# Altium integrated library TI Power Management Linear Regulator Single Channel LDO (0-350mA).IntLib: 1648 symbols (part 5 of 66)
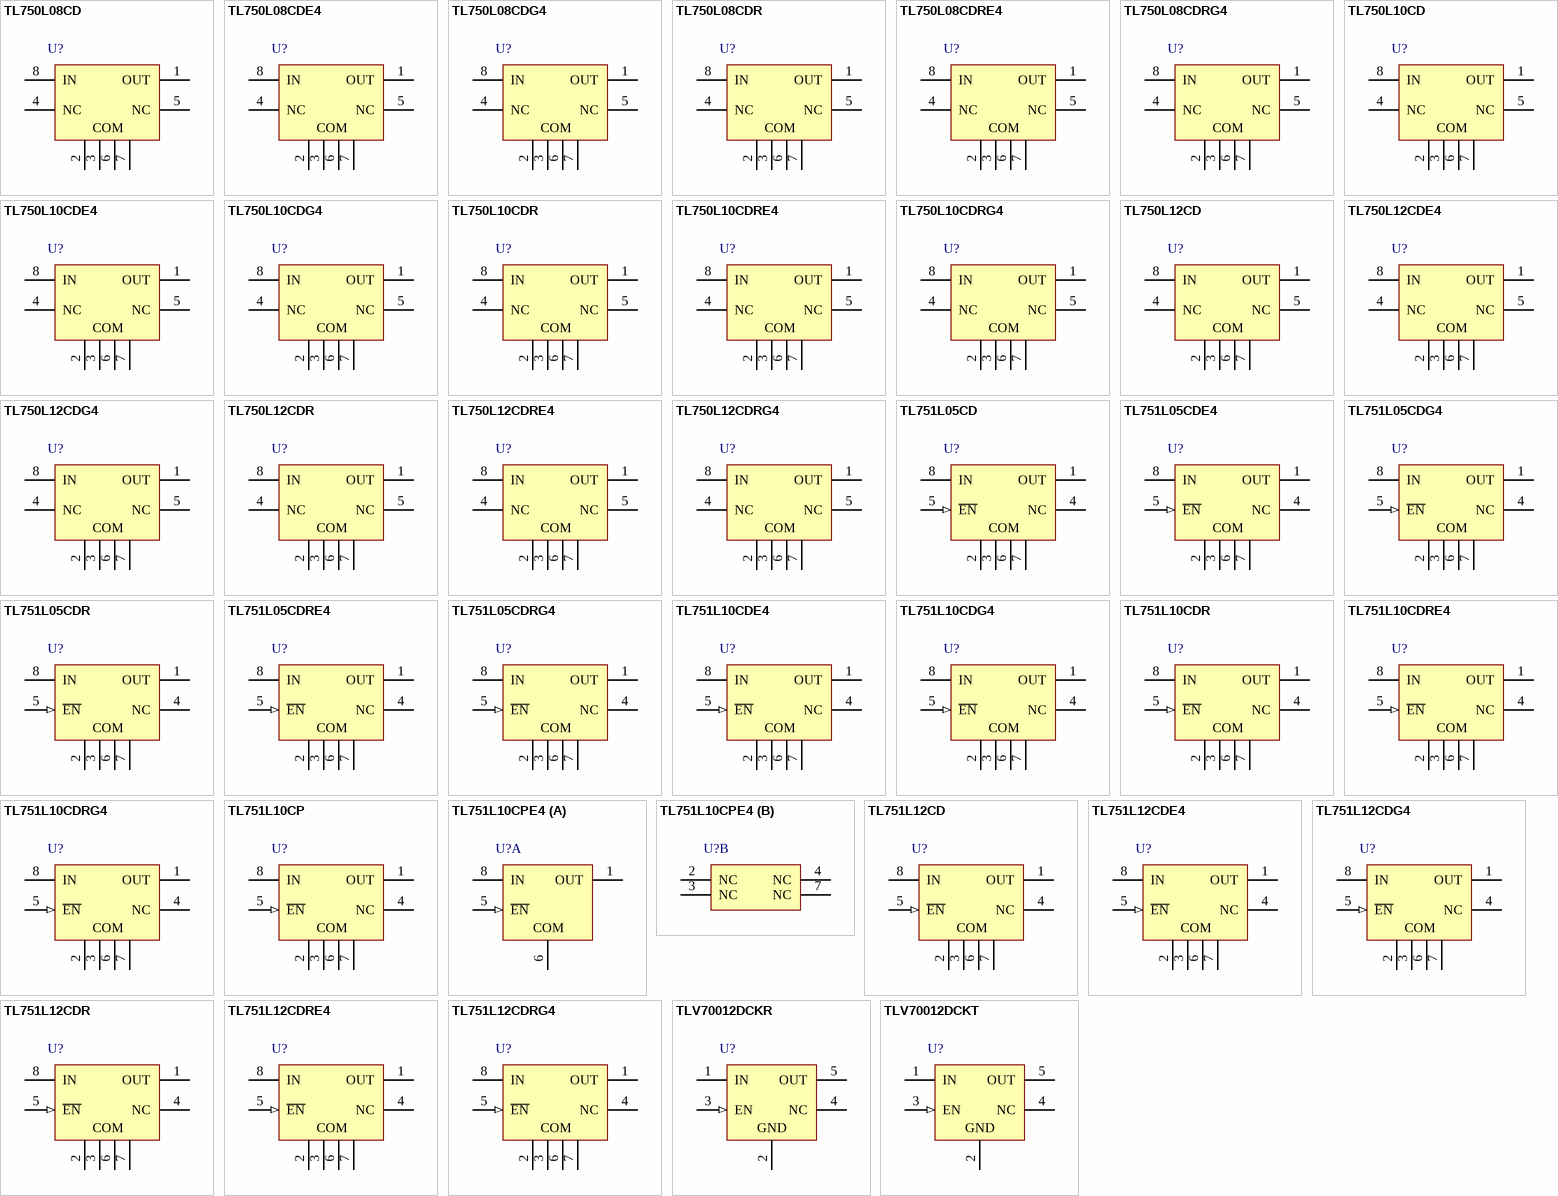
[diagram p46: symbols TL750L08CD to TLV70012DCKT]

## TL750L08CD
designator U?
Single Output LDO, 150 mA, Fixed 8 V Output, 9 to 26 V Input, with Low IQ, 8-pin SOIC (D), 0 to 125 degC, Green (RoHS & no Sb/Br); Manufacturer: Texas Instruments; PartNumber: TL750L08CD; Accuracy(%): 4; Fixed Output Options(V): 8; Iout(Max)(A): 0.15; Iq(Typ)(mA): 1; Rating: Catalog; SubFamily: Single Channel LDO; Vdo(Typ)(mV): 600; Vin(Max)(V): 26; Vin(Min)(V): 9; DatasheetVersion: SLVS017U; PackageVersion: 4040047-3/M; PackageReference: D8; PackageDescription: 8-Pin Plastic Small Outline, Body 4.9 x 3.9 mm, Pitch 1.27 mm; Supplier 1: Digi-Key; Supplier Part Number 1: 296-8004-5-ND; Supplier 2: Newark; Supplier Part Number 2: 76C9329; Supplier 3: Mouser; Supplier Part Number 3: 595-TL750L08CD; Eco-Plan: Green (RoHS & no Sb/Br); Vout Adj(Max)(V): 8; Vout Adj(Min)(V): 8; Mounting Technology: Surface Mount; Code_JEDEC: MS-012; ComponentLink1Description: Manufacturer URL; ComponentLink1URL: http://www.ti.com/; ComponentLink2Description: Datasheet; ComponentLink2URL: http://www.ti.com/general/docs/lit/getliterature.tsp?genericPartNumber=TL750L08&fileType=pdf; ComponentLink3Description: Package Specification; ComponentLink3URL: http://www.ti.com/litv/pdf/msoi002j; ComponentLink4Description: URL Link1; ComponentLink4URL: Samples URL:http://www.ti.com/product/tl750l08#samples
footprint TI-D8_N (SOIC, 8-Leads, Body 4.9x3.9mm, Pitch 1.27mm, IPC Medium Density)
footprint TI-D8_L (SOIC, 8-Leads, Body 4.9x3.9mm, Pitch 1.27mm, IPC High Density)
footprint TI-D8_M (SOIC, 8-Leads, Body 4.9x3.9mm, Pitch 1.27mm, IPC Low Density)
pins: 1 OUT (power), 2 COM (power), 3 COM (power), 4 NC "No internal connection", 5 NC "No internal connection", 6 COM (power), 7 COM (power), 8 IN (power)

## TL750L08CDE4
designator U?
Single Output LDO, 150 mA, Fixed 8 V Output, 9 to 26 V Input, with Low IQ, 8-pin SOIC (D), 0 to 125 degC, Green (RoHS & no Sb/Br); Manufacturer: Texas Instruments; PartNumber: TL750L08CDE4; Accuracy(%): 4; Fixed Output Options(V): 8; Iout(Max)(A): 0.15; Iq(Typ)(mA): 1; Rating: Catalog; SubFamily: Single Channel LDO; Vdo(Typ)(mV): 600; Vin(Max)(V): 26; Vin(Min)(V): 9; DatasheetVersion: SLVS017U; PackageVersion: 4040047-3/M; PackageReference: D8; PackageDescription: 8-Pin Plastic Small Outline, Body 4.9 x 3.9 mm, Pitch 1.27 mm; Supplier 1: Digi-Key; Supplier Part Number 1: TL750L08CDE4-ND; Supplier 2: Newark; Supplier Part Number 2: 37K4565; Supplier 3: Mouser; Supplier Part Number 3: 595-TL750L08CDE4; Eco-Plan: Green (RoHS & no Sb/Br); Vout Adj(Max)(V): 8; Vout Adj(Min)(V): 8; Mounting Technology: Surface Mount; Code_JEDEC: MS-012; ComponentLink1Description: Manufacturer URL; ComponentLink1URL: http://www.ti.com/; ComponentLink2Description: Datasheet; ComponentLink2URL: http://www.ti.com/general/docs/lit/getliterature.tsp?genericPartNumber=TL750L08&fileType=pdf; ComponentLink3Description: Package Specification; ComponentLink3URL: http://www.ti.com/litv/pdf/msoi002j; ComponentLink4Description: URL Link1; ComponentLink4URL: Samples URL:http://www.ti.com/product/tl750l08#samples
footprint TI-D8_N (SOIC, 8-Leads, Body 4.9x3.9mm, Pitch 1.27mm, IPC Medium Density)
footprint TI-D8_L (SOIC, 8-Leads, Body 4.9x3.9mm, Pitch 1.27mm, IPC High Density)
footprint TI-D8_M (SOIC, 8-Leads, Body 4.9x3.9mm, Pitch 1.27mm, IPC Low Density)
pins: 1 OUT (power), 2 COM (power), 3 COM (power), 4 NC "No internal connection", 5 NC "No internal connection", 6 COM (power), 7 COM (power), 8 IN (power)

## TL750L08CDG4
designator U?
Single Output LDO, 150 mA, Fixed 8 V Output, 9 to 26 V Input, with Low IQ, 8-pin SOIC (D), 0 to 125 degC, Green (RoHS & no Sb/Br); Manufacturer: Texas Instruments; PartNumber: TL750L08CDG4; Accuracy(%): 4; Fixed Output Options(V): 8; Iout(Max)(A): 0.15; Iq(Typ)(mA): 1; Rating: Catalog; SubFamily: Single Channel LDO; Vdo(Typ)(mV): 600; Vin(Max)(V): 26; Vin(Min)(V): 9; DatasheetVersion: SLVS017U; PackageVersion: 4040047-3/M; PackageReference: D8; PackageDescription: 8-Pin Plastic Small Outline, Body 4.9 x 3.9 mm, Pitch 1.27 mm; Supplier 1: Digi-Key; Supplier Part Number 1: TL750L08CDG4-ND; Supplier 2: Newark; Supplier Part Number 2: 41M5782; Supplier 3: Mouser; Supplier Part Number 3: 595-TL750L08CDG4; Eco-Plan: Green (RoHS & no Sb/Br); Vout Adj(Max)(V): 8; Vout Adj(Min)(V): 8; Mounting Technology: Surface Mount; Code_JEDEC: MS-012; ComponentLink1Description: Manufacturer URL; ComponentLink1URL: http://www.ti.com/; ComponentLink2Description: Datasheet; ComponentLink2URL: http://www.ti.com/general/docs/lit/getliterature.tsp?genericPartNumber=TL750L08&fileType=pdf; ComponentLink3Description: Package Specification; ComponentLink3URL: http://www.ti.com/litv/pdf/msoi002j; ComponentLink4Description: URL Link1; ComponentLink4URL: Samples URL:http://www.ti.com/product/tl750l08#samples
footprint TI-D8_N (SOIC, 8-Leads, Body 4.9x3.9mm, Pitch 1.27mm, IPC Medium Density)
footprint TI-D8_L (SOIC, 8-Leads, Body 4.9x3.9mm, Pitch 1.27mm, IPC High Density)
footprint TI-D8_M (SOIC, 8-Leads, Body 4.9x3.9mm, Pitch 1.27mm, IPC Low Density)
pins: 1 OUT (power), 2 COM (power), 3 COM (power), 4 NC "No internal connection", 5 NC "No internal connection", 6 COM (power), 7 COM (power), 8 IN (power)

## TL750L08CDR
designator U?
Single Output LDO, 150 mA, Fixed 8 V Output, 9 to 26 V Input, with Low IQ, 8-pin SOIC (D), 0 to 125 degC, Green (RoHS & no Sb/Br); Manufacturer: Texas Instruments; PartNumber: TL750L08CDR; Accuracy(%): 4; Fixed Output Options(V): 8; Iout(Max)(A): 0.15; Iq(Typ)(mA): 1; Rating: Catalog; SubFamily: Single Channel LDO; Vdo(Typ)(mV): 600; Vin(Max)(V): 26; Vin(Min)(V): 9; DatasheetVersion: SLVS017U; PackageVersion: 4040047-3/M; PackageReference: D8; PackageDescription: 8-Pin Plastic Small Outline, Body 4.9 x 3.9 mm, Pitch 1.27 mm; Supplier 1: Digi-Key; Supplier Part Number 1: TL750L08CDR-ND; Supplier 2: Newark; Supplier Part Number 2: 76C9330; Supplier 3: Mouser; Supplier Part Number 3: 595-TL750L08CDR; Eco-Plan: Green (RoHS & no Sb/Br); Vout Adj(Max)(V): 8; Vout Adj(Min)(V): 8; Mounting Technology: Surface Mount; Code_JEDEC: MS-012; ComponentLink1Description: Manufacturer URL; ComponentLink1URL: http://www.ti.com/; ComponentLink2Description: Datasheet; ComponentLink2URL: http://www.ti.com/general/docs/lit/getliterature.tsp?genericPartNumber=TL750L08&fileType=pdf; ComponentLink3Description: Package Specification; ComponentLink3URL: http://www.ti.com/litv/pdf/msoi002j; ComponentLink4Description: URL Link1; ComponentLink4URL: Samples URL:http://www.ti.com/product/tl750l08#samples
footprint TI-D8_N (SOIC, 8-Leads, Body 4.9x3.9mm, Pitch 1.27mm, IPC Medium Density)
footprint TI-D8_L (SOIC, 8-Leads, Body 4.9x3.9mm, Pitch 1.27mm, IPC High Density)
footprint TI-D8_M (SOIC, 8-Leads, Body 4.9x3.9mm, Pitch 1.27mm, IPC Low Density)
pins: 1 OUT (power), 2 COM (power), 3 COM (power), 4 NC "No internal connection", 5 NC "No internal connection", 6 COM (power), 7 COM (power), 8 IN (power)

## TL750L08CDRE4
designator U?
Single Output LDO, 150 mA, Fixed 8 V Output, 9 to 26 V Input, with Low IQ, 8-pin SOIC (D), 0 to 125 degC, Green (RoHS & no Sb/Br); Manufacturer: Texas Instruments; PartNumber: TL750L08CDRE4; Accuracy(%): 4; Fixed Output Options(V): 8; Iout(Max)(A): 0.15; Iq(Typ)(mA): 1; Rating: Catalog; SubFamily: Single Channel LDO; Vdo(Typ)(mV): 600; Vin(Max)(V): 26; Vin(Min)(V): 9; DatasheetVersion: SLVS017U; PackageVersion: 4040047-3/M; PackageReference: D8; PackageDescription: 8-Pin Plastic Small Outline, Body 4.9 x 3.9 mm, Pitch 1.27 mm; Supplier 1: Digi-Key; Supplier Part Number 1: TL750L08CDRE4-ND; Supplier 2: Newark; Supplier Part Number 2: 37K4566; Supplier 3: Mouser; Supplier Part Number 3: 595-TL750L08CDRE4; Eco-Plan: Green (RoHS & no Sb/Br); Vout Adj(Max)(V): 8; Vout Adj(Min)(V): 8; Mounting Technology: Surface Mount; Code_JEDEC: MS-012; ComponentLink1Description: Manufacturer URL; ComponentLink1URL: http://www.ti.com/; ComponentLink2Description: Datasheet; ComponentLink2URL: http://www.ti.com/general/docs/lit/getliterature.tsp?genericPartNumber=TL750L08&fileType=pdf; ComponentLink3Description: Package Specification; ComponentLink3URL: http://www.ti.com/litv/pdf/msoi002j; ComponentLink4Description: URL Link1; ComponentLink4URL: Samples URL:http://www.ti.com/product/tl750l08#samples
footprint TI-D8_N (SOIC, 8-Leads, Body 4.9x3.9mm, Pitch 1.27mm, IPC Medium Density)
footprint TI-D8_L (SOIC, 8-Leads, Body 4.9x3.9mm, Pitch 1.27mm, IPC High Density)
footprint TI-D8_M (SOIC, 8-Leads, Body 4.9x3.9mm, Pitch 1.27mm, IPC Low Density)
pins: 1 OUT (power), 2 COM (power), 3 COM (power), 4 NC "No internal connection", 5 NC "No internal connection", 6 COM (power), 7 COM (power), 8 IN (power)

## TL750L08CDRG4
designator U?
Single Output LDO, 150 mA, Fixed 8 V Output, 9 to 26 V Input, with Low IQ, 8-pin SOIC (D), 0 to 125 degC, Green (RoHS & no Sb/Br); Manufacturer: Texas Instruments; PartNumber: TL750L08CDRG4; Accuracy(%): 4; Fixed Output Options(V): 8; Iout(Max)(A): 0.15; Iq(Typ)(mA): 1; Rating: Catalog; SubFamily: Single Channel LDO; Vdo(Typ)(mV): 600; Vin(Max)(V): 26; Vin(Min)(V): 9; DatasheetVersion: SLVS017U; PackageVersion: 4040047-3/M; PackageReference: D8; PackageDescription: 8-Pin Plastic Small Outline, Body 4.9 x 3.9 mm, Pitch 1.27 mm; Supplier 1: Digi-Key; Supplier Part Number 1: TL750L08CDRG4-ND; Supplier 2: Newark; Supplier Part Number 2: 41M5783; Supplier 3: Mouser; Supplier Part Number 3: 595-TL750L08CDRG4; Eco-Plan: Green (RoHS & no Sb/Br); Vout Adj(Max)(V): 8; Vout Adj(Min)(V): 8; Mounting Technology: Surface Mount; Code_JEDEC: MS-012; ComponentLink1Description: Manufacturer URL; ComponentLink1URL: http://www.ti.com/; ComponentLink2Description: Datasheet; ComponentLink2URL: http://www.ti.com/general/docs/lit/getliterature.tsp?genericPartNumber=TL750L08&fileType=pdf; ComponentLink3Description: Package Specification; ComponentLink3URL: http://www.ti.com/litv/pdf/msoi002j; ComponentLink4Description: URL Link1; ComponentLink4URL: Samples URL:http://www.ti.com/product/tl750l08#samples
footprint TI-D8_N (SOIC, 8-Leads, Body 4.9x3.9mm, Pitch 1.27mm, IPC Medium Density)
footprint TI-D8_L (SOIC, 8-Leads, Body 4.9x3.9mm, Pitch 1.27mm, IPC High Density)
footprint TI-D8_M (SOIC, 8-Leads, Body 4.9x3.9mm, Pitch 1.27mm, IPC Low Density)
pins: 1 OUT (power), 2 COM (power), 3 COM (power), 4 NC "No internal connection", 5 NC "No internal connection", 6 COM (power), 7 COM (power), 8 IN (power)

## TL750L10CD
designator U?
Single Output LDO, 150 mA, Fixed 10 V Output, 11 to 26 V Input, with Low IQ, 8-pin SOIC (D), 0 to 125 degC, Green (RoHS & no Sb/Br); Manufacturer: Texas Instruments; PartNumber: TL750L10CD; Accuracy(%): 4; Fixed Output Options(V): 10; Iout(Max)(A): 0.15; Iq(Typ)(mA): 1; Rating: Catalog; SubFamily: Single Channel LDO; Vdo(Typ)(mV): 600; Vin(Max)(V): 26; Vin(Min)(V): 11; DatasheetVersion: SLVS017U; PackageVersion: 4040047-3/M; PackageReference: D8; PackageDescription: 8-Pin Plastic Small Outline, Body 4.9 x 3.9 mm, Pitch 1.27 mm; Supplier 1: Digi-Key; Supplier Part Number 1: 296-8006-5-ND; Supplier 2: Newark; Supplier Part Number 2: 76C9331; Supplier 3: Mouser; Supplier Part Number 3: 595-TL750L10CD; Eco-Plan: Green (RoHS & no Sb/Br); Vout Adj(Max)(V): 10; Vout Adj(Min)(V): 10; Mounting Technology: Surface Mount; Code_JEDEC: MS-012; ComponentLink1Description: Manufacturer URL; ComponentLink1URL: http://www.ti.com/; ComponentLink2Description: Datasheet; ComponentLink2URL: http://www.ti.com/general/docs/lit/getliterature.tsp?genericPartNumber=TL750L10&fileType=pdf; ComponentLink3Description: Package Specification; ComponentLink3URL: http://www.ti.com/litv/pdf/msoi002j; ComponentLink4Description: URL Link1; ComponentLink4URL: Samples URL:http://www.ti.com/product/tl750l10#samples
footprint TI-D8_N (SOIC, 8-Leads, Body 4.9x3.9mm, Pitch 1.27mm, IPC Medium Density)
footprint TI-D8_L (SOIC, 8-Leads, Body 4.9x3.9mm, Pitch 1.27mm, IPC High Density)
footprint TI-D8_M (SOIC, 8-Leads, Body 4.9x3.9mm, Pitch 1.27mm, IPC Low Density)
pins: 1 OUT (power), 2 COM (power), 3 COM (power), 4 NC, 5 NC, 6 COM (power), 7 COM (power), 8 IN (power)

## TL750L10CDE4
designator U?
Single Output LDO, 150 mA, Fixed 10 V Output, 11 to 26 V Input, with Low IQ, 8-pin SOIC (D), 0 to 125 degC, Green (RoHS & no Sb/Br); Manufacturer: Texas Instruments; PartNumber: TL750L10CDE4; Accuracy(%): 4; Fixed Output Options(V): 10; Iout(Max)(A): 0.15; Iq(Typ)(mA): 1; Rating: Catalog; SubFamily: Single Channel LDO; Vdo(Typ)(mV): 600; Vin(Max)(V): 26; Vin(Min)(V): 11; DatasheetVersion: SLVS017U; PackageVersion: 4040047-3/M; PackageReference: D8; PackageDescription: 8-Pin Plastic Small Outline, Body 4.9 x 3.9 mm, Pitch 1.27 mm; Supplier 1: Digi-Key; Supplier Part Number 1: TL750L10CDE4-ND; Supplier 2: Mouser; Supplier Part Number 2: 595-TL750L10CDE4; Eco-Plan: Green (RoHS & no Sb/Br); Vout Adj(Max)(V): 10; Vout Adj(Min)(V): 10; Mounting Technology: Surface Mount; Code_JEDEC: MS-012; ComponentLink1Description: Manufacturer URL; ComponentLink1URL: http://www.ti.com/; ComponentLink2Description: Datasheet; ComponentLink2URL: http://www.ti.com/general/docs/lit/getliterature.tsp?genericPartNumber=TL750L10&fileType=pdf; ComponentLink3Description: Package Specification; ComponentLink3URL: http://www.ti.com/litv/pdf/msoi002j; ComponentLink4Description: URL Link1; ComponentLink4URL: Samples URL:http://www.ti.com/product/tl750l10#samples
footprint TI-D8_N (SOIC, 8-Leads, Body 4.9x3.9mm, Pitch 1.27mm, IPC Medium Density)
footprint TI-D8_L (SOIC, 8-Leads, Body 4.9x3.9mm, Pitch 1.27mm, IPC High Density)
footprint TI-D8_M (SOIC, 8-Leads, Body 4.9x3.9mm, Pitch 1.27mm, IPC Low Density)
pins: 1 OUT (power), 2 COM (power), 3 COM (power), 4 NC, 5 NC, 6 COM (power), 7 COM (power), 8 IN (power)

## TL750L10CDG4
designator U?
Single Output LDO, 150 mA, Fixed 10 V Output, 11 to 26 V Input, with Low IQ, 8-pin SOIC (D), 0 to 125 degC, Green (RoHS & no Sb/Br); Manufacturer: Texas Instruments; PartNumber: TL750L10CDG4; Accuracy(%): 4; Fixed Output Options(V): 10; Iout(Max)(A): 0.15; Iq(Typ)(mA): 1; Rating: Catalog; SubFamily: Single Channel LDO; Vdo(Typ)(mV): 600; Vin(Max)(V): 26; Vin(Min)(V): 11; DatasheetVersion: SLVS017U; PackageVersion: 4040047-3/M; PackageReference: D8; PackageDescription: 8-Pin Plastic Small Outline, Body 4.9 x 3.9 mm, Pitch 1.27 mm; Supplier 1: Digi-Key; Supplier Part Number 1: TL750L10CDG4-ND; Supplier 2: Newark; Supplier Part Number 2: 41M5784; Supplier 3: Mouser; Supplier Part Number 3: 595-TL750L10CDG4; Eco-Plan: Green (RoHS & no Sb/Br); Vout Adj(Max)(V): 10; Vout Adj(Min)(V): 10; Mounting Technology: Surface Mount; Code_JEDEC: MS-012; ComponentLink1Description: Manufacturer URL; ComponentLink1URL: http://www.ti.com/; ComponentLink2Description: Datasheet; ComponentLink2URL: http://www.ti.com/general/docs/lit/getliterature.tsp?genericPartNumber=TL750L10&fileType=pdf; ComponentLink3Description: Package Specification; ComponentLink3URL: http://www.ti.com/litv/pdf/msoi002j; ComponentLink4Description: URL Link1; ComponentLink4URL: Samples URL:http://www.ti.com/product/tl750l10#samples
footprint TI-D8_N (SOIC, 8-Leads, Body 4.9x3.9mm, Pitch 1.27mm, IPC Medium Density)
footprint TI-D8_L (SOIC, 8-Leads, Body 4.9x3.9mm, Pitch 1.27mm, IPC High Density)
footprint TI-D8_M (SOIC, 8-Leads, Body 4.9x3.9mm, Pitch 1.27mm, IPC Low Density)
pins: 1 OUT (power), 2 COM (power), 3 COM (power), 4 NC, 5 NC, 6 COM (power), 7 COM (power), 8 IN (power)

## TL750L10CDR
designator U?
Single Output LDO, 150 mA, Fixed 10 V Output, 11 to 26 V Input, with Low IQ, 8-pin SOIC (D), 0 to 125 degC, Green (RoHS & no Sb/Br); Manufacturer: Texas Instruments; PartNumber: TL750L10CDR; Accuracy(%): 4; Fixed Output Options(V): 10; Iout(Max)(A): 0.15; Iq(Typ)(mA): 1; Rating: Catalog; SubFamily: Single Channel LDO; Vdo(Typ)(mV): 600; Vin(Max)(V): 26; Vin(Min)(V): 11; DatasheetVersion: SLVS017U; PackageVersion: 4040047-3/M; PackageReference: D8; PackageDescription: 8-Pin Plastic Small Outline, Body 4.9 x 3.9 mm, Pitch 1.27 mm; Supplier 1: Digi-Key; Supplier Part Number 1: 296-31949-2-ND; Supplier 2: Digi-Key; Supplier Part Number 2: 296-31949-1-ND; Supplier 3: Digi-Key; Supplier Part Number 3: 296-31949-6-ND; Supplier 4: Newark; Supplier Part Number 4: 76C9332; Supplier 5: Mouser; Supplier Part Number 5: 595-TL750L10CDR; Eco-Plan: Green (RoHS & no Sb/Br); Vout Adj(Max)(V): 10; Vout Adj(Min)(V): 10; Mounting Technology: Surface Mount; Code_JEDEC: MS-012; ComponentLink1Description: Manufacturer URL; ComponentLink1URL: http://www.ti.com/; ComponentLink2Description: Datasheet; ComponentLink2URL: http://www.ti.com/general/docs/lit/getliterature.tsp?genericPartNumber=TL750L10&fileType=pdf; ComponentLink3Description: Package Specification; ComponentLink3URL: http://www.ti.com/litv/pdf/msoi002j; ComponentLink4Description: URL Link1; ComponentLink4URL: Samples URL:http://www.ti.com/product/tl750l10#samples
footprint TI-D8_N (SOIC, 8-Leads, Body 4.9x3.9mm, Pitch 1.27mm, IPC Medium Density)
footprint TI-D8_L (SOIC, 8-Leads, Body 4.9x3.9mm, Pitch 1.27mm, IPC High Density)
footprint TI-D8_M (SOIC, 8-Leads, Body 4.9x3.9mm, Pitch 1.27mm, IPC Low Density)
pins: 1 OUT (power), 2 COM (power), 3 COM (power), 4 NC, 5 NC, 6 COM (power), 7 COM (power), 8 IN (power)

## TL750L10CDRE4
designator U?
Single Output LDO, 150 mA, Fixed 10 V Output, 11 to 26 V Input, with Low IQ, 8-pin SOIC (D), 0 to 125 degC, Green (RoHS & no Sb/Br); Manufacturer: Texas Instruments; PartNumber: TL750L10CDRE4; Accuracy(%): 4; Fixed Output Options(V): 10; Iout(Max)(A): 0.15; Iq(Typ)(mA): 1; Rating: Catalog; SubFamily: Single Channel LDO; Vdo(Typ)(mV): 600; Vin(Max)(V): 26; Vin(Min)(V): 11; DatasheetVersion: SLVS017U; PackageVersion: 4040047-3/M; PackageReference: D8; PackageDescription: 8-Pin Plastic Small Outline, Body 4.9 x 3.9 mm, Pitch 1.27 mm; Supplier 1: Digi-Key; Supplier Part Number 1: TL750L10CDRE4-ND; Supplier 2: Mouser; Supplier Part Number 2: 595-TL750L10CDRE4; Eco-Plan: Green (RoHS & no Sb/Br); Vout Adj(Max)(V): 10; Vout Adj(Min)(V): 10; Mounting Technology: Surface Mount; Code_JEDEC: MS-012; ComponentLink1Description: Manufacturer URL; ComponentLink1URL: http://www.ti.com/; ComponentLink2Description: Datasheet; ComponentLink2URL: http://www.ti.com/general/docs/lit/getliterature.tsp?genericPartNumber=TL750L10&fileType=pdf; ComponentLink3Description: Package Specification; ComponentLink3URL: http://www.ti.com/litv/pdf/msoi002j; ComponentLink4Description: URL Link1; ComponentLink4URL: Samples URL:http://www.ti.com/product/tl750l10#samples
footprint TI-D8_N (SOIC, 8-Leads, Body 4.9x3.9mm, Pitch 1.27mm, IPC Medium Density)
footprint TI-D8_L (SOIC, 8-Leads, Body 4.9x3.9mm, Pitch 1.27mm, IPC High Density)
footprint TI-D8_M (SOIC, 8-Leads, Body 4.9x3.9mm, Pitch 1.27mm, IPC Low Density)
pins: 1 OUT (power), 2 COM (power), 3 COM (power), 4 NC, 5 NC, 6 COM (power), 7 COM (power), 8 IN (power)

## TL750L10CDRG4
designator U?
Single Output LDO, 150 mA, Fixed 10 V Output, 11 to 26 V Input, with Low IQ, 8-pin SOIC (D), 0 to 125 degC, Green (RoHS & no Sb/Br); Manufacturer: Texas Instruments; PartNumber: TL750L10CDRG4; Accuracy(%): 4; Fixed Output Options(V): 10; Iout(Max)(A): 0.15; Iq(Typ)(mA): 1; Rating: Catalog; SubFamily: Single Channel LDO; Vdo(Typ)(mV): 600; Vin(Max)(V): 26; Vin(Min)(V): 11; DatasheetVersion: SLVS017U; PackageVersion: 4040047-3/M; PackageReference: D8; PackageDescription: 8-Pin Plastic Small Outline, Body 4.9 x 3.9 mm, Pitch 1.27 mm; Supplier 1: Digi-Key; Supplier Part Number 1: TL750L10CDRG4-ND; Supplier 2: Newark; Supplier Part Number 2: 41M5785; Supplier 3: Mouser; Supplier Part Number 3: 595-TL750L10CDRG4; Eco-Plan: Green (RoHS & no Sb/Br); Vout Adj(Max)(V): 10; Vout Adj(Min)(V): 10; Mounting Technology: Surface Mount; Code_JEDEC: MS-012; ComponentLink1Description: Manufacturer URL; ComponentLink1URL: http://www.ti.com/; ComponentLink2Description: Datasheet; ComponentLink2URL: http://www.ti.com/general/docs/lit/getliterature.tsp?genericPartNumber=TL750L10&fileType=pdf; ComponentLink3Description: Package Specification; ComponentLink3URL: http://www.ti.com/litv/pdf/msoi002j; ComponentLink4Description: URL Link1; ComponentLink4URL: Samples URL:http://www.ti.com/product/tl750l10#samples
footprint TI-D8_N (SOIC, 8-Leads, Body 4.9x3.9mm, Pitch 1.27mm, IPC Medium Density)
footprint TI-D8_L (SOIC, 8-Leads, Body 4.9x3.9mm, Pitch 1.27mm, IPC High Density)
footprint TI-D8_M (SOIC, 8-Leads, Body 4.9x3.9mm, Pitch 1.27mm, IPC Low Density)
pins: 1 OUT (power), 2 COM (power), 3 COM (power), 4 NC, 5 NC, 6 COM (power), 7 COM (power), 8 IN (power)

## TL750L12CD
designator U?
Single Output LDO, 150 mA, Fixed 12 V Output, 13 to 26 V Input, with Low IQ, 8-pin SOIC (D), 0 to 125 degC, Green (RoHS & no Sb/Br); Manufacturer: Texas Instruments; PartNumber: TL750L12CD; Accuracy(%): 4; Fixed Output Options(V): 12; Iout(Max)(A): 0.15; Iq(Typ)(mA): 1; Rating: Catalog; SubFamily: Single Channel LDO; Vdo(Typ)(mV): 600; Vin(Max)(V): 26; Vin(Min)(V): 13; DatasheetVersion: SLVS017U; PackageVersion: 4040047-3/M; PackageReference: D8; PackageDescription: 8-Pin Plastic Small Outline, Body 4.9 x 3.9 mm, Pitch 1.27 mm; Supplier 1: Digi-Key; Supplier Part Number 1: 296-8008-5-ND; Supplier 2: Newark; Supplier Part Number 2: 76C9335; Supplier 3: Mouser; Supplier Part Number 3: 595-TL750L12CD; Eco-Plan: Green (RoHS & no Sb/Br); Vout Adj(Max)(V): 12; Vout Adj(Min)(V): 12; Mounting Technology: Surface Mount; Code_JEDEC: MS-012; ComponentLink1Description: Manufacturer URL; ComponentLink1URL: http://www.ti.com/; ComponentLink2Description: Datasheet; ComponentLink2URL: http://www.ti.com/general/docs/lit/getliterature.tsp?genericPartNumber=TL750L12&fileType=pdf; ComponentLink3Description: Package Specification; ComponentLink3URL: http://www.ti.com/litv/pdf/msoi002j; ComponentLink4Description: URL Link1; ComponentLink4URL: Samples URL:http://www.ti.com/product/tl750l12#samples
footprint TI-D8_N (SOIC, 8-Leads, Body 4.9x3.9mm, Pitch 1.27mm, IPC Medium Density)
footprint TI-D8_L (SOIC, 8-Leads, Body 4.9x3.9mm, Pitch 1.27mm, IPC High Density)
footprint TI-D8_M (SOIC, 8-Leads, Body 4.9x3.9mm, Pitch 1.27mm, IPC Low Density)
pins: 1 OUT (power), 2 COM (power), 3 COM (power), 4 NC "No internal connection", 5 NC "No internal connection", 6 COM (power), 7 COM (power), 8 IN (power)

## TL750L12CDE4
designator U?
Single Output LDO, 150 mA, Fixed 12 V Output, 13 to 26 V Input, with Low IQ, 8-pin SOIC (D), 0 to 125 degC, Green (RoHS & no Sb/Br); Manufacturer: Texas Instruments; PartNumber: TL750L12CDE4; Accuracy(%): 4; Fixed Output Options(V): 12; Iout(Max)(A): 0.15; Iq(Typ)(mA): 1; Rating: Catalog; SubFamily: Single Channel LDO; Vdo(Typ)(mV): 600; Vin(Max)(V): 26; Vin(Min)(V): 13; DatasheetVersion: SLVS017U; PackageVersion: 4040047-3/M; PackageReference: D8; PackageDescription: 8-Pin Plastic Small Outline, Body 4.9 x 3.9 mm, Pitch 1.27 mm; Supplier 1: Digi-Key; Supplier Part Number 1: TL750L12CDE4-ND; Supplier 2: Mouser; Supplier Part Number 2: 595-TL750L12CDE4; Eco-Plan: Green (RoHS & no Sb/Br); Vout Adj(Max)(V): 12; Vout Adj(Min)(V): 12; Mounting Technology: Surface Mount; Code_JEDEC: MS-012; ComponentLink1Description: Manufacturer URL; ComponentLink1URL: http://www.ti.com/; ComponentLink2Description: Datasheet; ComponentLink2URL: http://www.ti.com/general/docs/lit/getliterature.tsp?genericPartNumber=TL750L12&fileType=pdf; ComponentLink3Description: Package Specification; ComponentLink3URL: http://www.ti.com/litv/pdf/msoi002j; ComponentLink4Description: URL Link1; ComponentLink4URL: Samples URL:http://www.ti.com/product/tl750l12#samples
footprint TI-D8_N (SOIC, 8-Leads, Body 4.9x3.9mm, Pitch 1.27mm, IPC Medium Density)
footprint TI-D8_L (SOIC, 8-Leads, Body 4.9x3.9mm, Pitch 1.27mm, IPC High Density)
footprint TI-D8_M (SOIC, 8-Leads, Body 4.9x3.9mm, Pitch 1.27mm, IPC Low Density)
pins: 1 OUT (power), 2 COM (power), 3 COM (power), 4 NC "No internal connection", 5 NC "No internal connection", 6 COM (power), 7 COM (power), 8 IN (power)

## TL750L12CDG4
designator U?
Single Output LDO, 150 mA, Fixed 12 V Output, 13 to 26 V Input, with Low IQ, 8-pin SOIC (D), 0 to 125 degC, Green (RoHS & no Sb/Br); Manufacturer: Texas Instruments; PartNumber: TL750L12CDG4; Accuracy(%): 4; Fixed Output Options(V): 12; Iout(Max)(A): 0.15; Iq(Typ)(mA): 1; Rating: Catalog; SubFamily: Single Channel LDO; Vdo(Typ)(mV): 600; Vin(Max)(V): 26; Vin(Min)(V): 13; DatasheetVersion: SLVS017U; PackageVersion: 4040047-3/M; PackageReference: D8; PackageDescription: 8-Pin Plastic Small Outline, Body 4.9 x 3.9 mm, Pitch 1.27 mm; Supplier 1: Digi-Key; Supplier Part Number 1: TL750L12CDG4-ND; Supplier 2: Newark; Supplier Part Number 2: 41M5786; Supplier 3: Mouser; Supplier Part Number 3: 595-TL750L12CDG4; Eco-Plan: Green (RoHS & no Sb/Br); Vout Adj(Max)(V): 12; Vout Adj(Min)(V): 12; Mounting Technology: Surface Mount; Code_JEDEC: MS-012; ComponentLink1Description: Manufacturer URL; ComponentLink1URL: http://www.ti.com/; ComponentLink2Description: Datasheet; ComponentLink2URL: http://www.ti.com/general/docs/lit/getliterature.tsp?genericPartNumber=TL750L12&fileType=pdf; ComponentLink3Description: Package Specification; ComponentLink3URL: http://www.ti.com/litv/pdf/msoi002j; ComponentLink4Description: URL Link1; ComponentLink4URL: Samples URL:http://www.ti.com/product/tl750l12#samples
footprint TI-D8_N (SOIC, 8-Leads, Body 4.9x3.9mm, Pitch 1.27mm, IPC Medium Density)
footprint TI-D8_L (SOIC, 8-Leads, Body 4.9x3.9mm, Pitch 1.27mm, IPC High Density)
footprint TI-D8_M (SOIC, 8-Leads, Body 4.9x3.9mm, Pitch 1.27mm, IPC Low Density)
pins: 1 OUT (power), 2 COM (power), 3 COM (power), 4 NC "No internal connection", 5 NC "No internal connection", 6 COM (power), 7 COM (power), 8 IN (power)

## TL750L12CDR
designator U?
Single Output LDO, 150 mA, Fixed 12 V Output, 13 to 26 V Input, with Low IQ, 8-pin SOIC (D), 0 to 125 degC, Green (RoHS & no Sb/Br); Manufacturer: Texas Instruments; PartNumber: TL750L12CDR; Accuracy(%): 4; Fixed Output Options(V): 12; Iout(Max)(A): 0.15; Iq(Typ)(mA): 1; Rating: Catalog; SubFamily: Single Channel LDO; Vdo(Typ)(mV): 600; Vin(Max)(V): 26; Vin(Min)(V): 13; DatasheetVersion: SLVS017U; PackageVersion: 4040047-3/M; PackageReference: D8; PackageDescription: 8-Pin Plastic Small Outline, Body 4.9 x 3.9 mm, Pitch 1.27 mm; Supplier 1: Digi-Key; Supplier Part Number 1: 296-31950-2-ND; Supplier 2: Digi-Key; Supplier Part Number 2: 296-31950-1-ND; Supplier 3: Digi-Key; Supplier Part Number 3: 296-31950-6-ND; Supplier 4: Newark; Supplier Part Number 4: 76C9336; Supplier 5: Mouser; Supplier Part Number 5: 595-TL750L12CDR; Eco-Plan: Green (RoHS & no Sb/Br); Vout Adj(Max)(V): 12; Vout Adj(Min)(V): 12; Mounting Technology: Surface Mount; Code_JEDEC: MS-012; ComponentLink1Description: Manufacturer URL; ComponentLink1URL: http://www.ti.com/; ComponentLink2Description: Datasheet; ComponentLink2URL: http://www.ti.com/general/docs/lit/getliterature.tsp?genericPartNumber=TL750L12&fileType=pdf; ComponentLink3Description: Package Specification; ComponentLink3URL: http://www.ti.com/litv/pdf/msoi002j; ComponentLink4Description: URL Link1; ComponentLink4URL: Samples URL:http://www.ti.com/product/tl750l12#samples
footprint TI-D8_N (SOIC, 8-Leads, Body 4.9x3.9mm, Pitch 1.27mm, IPC Medium Density)
footprint TI-D8_L (SOIC, 8-Leads, Body 4.9x3.9mm, Pitch 1.27mm, IPC High Density)
footprint TI-D8_M (SOIC, 8-Leads, Body 4.9x3.9mm, Pitch 1.27mm, IPC Low Density)
pins: 1 OUT (power), 2 COM (power), 3 COM (power), 4 NC "No internal connection", 5 NC "No internal connection", 6 COM (power), 7 COM (power), 8 IN (power)

## TL750L12CDRE4
designator U?
Single Output LDO, 150 mA, Fixed 12 V Output, 13 to 26 V Input, with Low IQ, 8-pin SOIC (D), 0 to 125 degC, Green (RoHS & no Sb/Br); Manufacturer: Texas Instruments; PartNumber: TL750L12CDRE4; Accuracy(%): 4; Fixed Output Options(V): 12; Iout(Max)(A): 0.15; Iq(Typ)(mA): 1; Rating: Catalog; SubFamily: Single Channel LDO; Vdo(Typ)(mV): 600; Vin(Max)(V): 26; Vin(Min)(V): 13; DatasheetVersion: SLVS017U; PackageVersion: 4040047-3/M; PackageReference: D8; PackageDescription: 8-Pin Plastic Small Outline, Body 4.9 x 3.9 mm, Pitch 1.27 mm; Supplier 1: Digi-Key; Supplier Part Number 1: TL750L12CDRE4-ND; Supplier 2: Mouser; Supplier Part Number 2: 595-TL750L12CDRE4; Eco-Plan: Green (RoHS & no Sb/Br); Vout Adj(Max)(V): 12; Vout Adj(Min)(V): 12; Mounting Technology: Surface Mount; Code_JEDEC: MS-012; ComponentLink1Description: Manufacturer URL; ComponentLink1URL: http://www.ti.com/; ComponentLink2Description: Datasheet; ComponentLink2URL: http://www.ti.com/general/docs/lit/getliterature.tsp?genericPartNumber=TL750L12&fileType=pdf; ComponentLink3Description: Package Specification; ComponentLink3URL: http://www.ti.com/litv/pdf/msoi002j; ComponentLink4Description: URL Link1; ComponentLink4URL: Samples URL:http://www.ti.com/product/tl750l12#samples
footprint TI-D8_N (SOIC, 8-Leads, Body 4.9x3.9mm, Pitch 1.27mm, IPC Medium Density)
footprint TI-D8_L (SOIC, 8-Leads, Body 4.9x3.9mm, Pitch 1.27mm, IPC High Density)
footprint TI-D8_M (SOIC, 8-Leads, Body 4.9x3.9mm, Pitch 1.27mm, IPC Low Density)
pins: 1 OUT (power), 2 COM (power), 3 COM (power), 4 NC "No internal connection", 5 NC "No internal connection", 6 COM (power), 7 COM (power), 8 IN (power)

## TL750L12CDRG4
designator U?
Single Output LDO, 150 mA, Fixed 12 V Output, 13 to 26 V Input, with Low IQ, 8-pin SOIC (D), 0 to 125 degC, Green (RoHS & no Sb/Br); Manufacturer: Texas Instruments; PartNumber: TL750L12CDRG4; Accuracy(%): 4; Fixed Output Options(V): 12; Iout(Max)(A): 0.15; Iq(Typ)(mA): 1; Rating: Catalog; SubFamily: Single Channel LDO; Vdo(Typ)(mV): 600; Vin(Max)(V): 26; Vin(Min)(V): 13; DatasheetVersion: SLVS017U; PackageVersion: 4040047-3/M; PackageReference: D8; PackageDescription: 8-Pin Plastic Small Outline, Body 4.9 x 3.9 mm, Pitch 1.27 mm; Supplier 1: Digi-Key; Supplier Part Number 1: TL750L12CDRG4-ND; Supplier 2: Newark; Supplier Part Number 2: 41M5787; Supplier 3: Mouser; Supplier Part Number 3: 595-TL750L12CDRG4; Eco-Plan: Green (RoHS & no Sb/Br); Vout Adj(Max)(V): 12; Vout Adj(Min)(V): 12; Mounting Technology: Surface Mount; Code_JEDEC: MS-012; ComponentLink1Description: Manufacturer URL; ComponentLink1URL: http://www.ti.com/; ComponentLink2Description: Datasheet; ComponentLink2URL: http://www.ti.com/general/docs/lit/getliterature.tsp?genericPartNumber=TL750L12&fileType=pdf; ComponentLink3Description: Package Specification; ComponentLink3URL: http://www.ti.com/litv/pdf/msoi002j; ComponentLink4Description: URL Link1; ComponentLink4URL: Samples URL:http://www.ti.com/product/tl750l12#samples
footprint TI-D8_N (SOIC, 8-Leads, Body 4.9x3.9mm, Pitch 1.27mm, IPC Medium Density)
footprint TI-D8_L (SOIC, 8-Leads, Body 4.9x3.9mm, Pitch 1.27mm, IPC High Density)
footprint TI-D8_M (SOIC, 8-Leads, Body 4.9x3.9mm, Pitch 1.27mm, IPC Low Density)
pins: 1 OUT (power), 2 COM (power), 3 COM (power), 4 NC "No internal connection", 5 NC "No internal connection", 6 COM (power), 7 COM (power), 8 IN (power)

## TL751L05CD
designator U?
Single Output LDO, 150 mA, Fixed 5 V Output, 6 to 26 V Input, with Low IQ, 8-pin SOIC (D), 0 to 125 degC, Green (RoHS & no Sb/Br); Manufacturer: Texas Instruments; PartNumber: TL751L05CD; Accuracy(%): 4; Fixed Output Options(V): 5; Iout(Max)(A): 0.15; Iq(Typ)(mA): 1; Rating: Military; SubFamily: Single Channel LDO; Vdo(Typ)(mV): 600; Vin(Max)(V): 26; Vin(Min)(V): 6; DatasheetVersion: SLVS017U; PackageVersion: 4040047-3/M; PackageReference: D8; PackageDescription: 8-Pin Plastic Small Outline, Body 4.9 x 3.9 mm, Pitch 1.27 mm; Supplier 1: Digi-Key; Supplier Part Number 1: 296-8011-5-ND; Supplier 2: Newark; Supplier Part Number 2: 08F9500; Supplier 3: Mouser; Supplier Part Number 3: 595-TL751L05CD; Eco-Plan: Green (RoHS & no Sb/Br); Vout Adj(Max)(V): 5; Vout Adj(Min)(V): 5; Mounting Technology: Surface Mount; Code_JEDEC: MS-012; ComponentLink1Description: Manufacturer URL; ComponentLink1URL: http://www.ti.com/; ComponentLink2Description: Datasheet; ComponentLink2URL: http://www.ti.com/general/docs/lit/getliterature.tsp?genericPartNumber=TL751L05&fileType=pdf; ComponentLink3Description: Package Specification; ComponentLink3URL: http://www.ti.com/litv/pdf/msoi002j; ComponentLink4Description: URL Link1; ComponentLink4URL: Samples URL:http://www.ti.com/product/tl751l05#samples
footprint TI-D8_N (SOIC, 8-Leads, Body 4.9x3.9mm, Pitch 1.27mm, IPC Medium Density)
footprint TI-D8_L (SOIC, 8-Leads, Body 4.9x3.9mm, Pitch 1.27mm, IPC High Density)
footprint TI-D8_M (SOIC, 8-Leads, Body 4.9x3.9mm, Pitch 1.27mm, IPC Low Density)
pins: 1 OUT (power), 2 COM (power), 3 COM (power), 4 NC "No internal connection", 5 ~{EN} (in), 6 COM (power), 7 COM (power), 8 IN (power)

## TL751L05CDE4
designator U?
Single Output LDO, 150 mA, Fixed 5 V Output, 6 to 26 V Input, with Low IQ, 8-pin SOIC (D), 0 to 125 degC, Green (RoHS & no Sb/Br); Manufacturer: Texas Instruments; PartNumber: TL751L05CDE4; Accuracy(%): 4; Fixed Output Options(V): 5; Iout(Max)(A): 0.15; Iq(Typ)(mA): 1; Rating: Military; SubFamily: Single Channel LDO; Vdo(Typ)(mV): 600; Vin(Max)(V): 26; Vin(Min)(V): 6; DatasheetVersion: SLVS017U; PackageVersion: 4040047-3/M; PackageReference: D8; PackageDescription: 8-Pin Plastic Small Outline, Body 4.9 x 3.9 mm, Pitch 1.27 mm; Supplier 1: Digi-Key; Supplier Part Number 1: TL751L05CDE4-ND; Supplier 2: Newark; Supplier Part Number 2: 37K4571; Supplier 3: Mouser; Supplier Part Number 3: 595-TL751L05CDE4; Eco-Plan: Green (RoHS & no Sb/Br); Vout Adj(Max)(V): 5; Vout Adj(Min)(V): 5; Mounting Technology: Surface Mount; Code_JEDEC: MS-012; ComponentLink1Description: Manufacturer URL; ComponentLink1URL: http://www.ti.com/; ComponentLink2Description: Datasheet; ComponentLink2URL: http://www.ti.com/general/docs/lit/getliterature.tsp?genericPartNumber=TL751L05&fileType=pdf; ComponentLink3Description: Package Specification; ComponentLink3URL: http://www.ti.com/litv/pdf/msoi002j; ComponentLink4Description: URL Link1; ComponentLink4URL: Samples URL:http://www.ti.com/product/tl751l05#samples
footprint TI-D8_N (SOIC, 8-Leads, Body 4.9x3.9mm, Pitch 1.27mm, IPC Medium Density)
footprint TI-D8_L (SOIC, 8-Leads, Body 4.9x3.9mm, Pitch 1.27mm, IPC High Density)
footprint TI-D8_M (SOIC, 8-Leads, Body 4.9x3.9mm, Pitch 1.27mm, IPC Low Density)
pins: 1 OUT (power), 2 COM (power), 3 COM (power), 4 NC "No internal connection", 5 ~{EN} (in), 6 COM (power), 7 COM (power), 8 IN (power)

## TL751L05CDG4
designator U?
Single Output LDO, 150 mA, Fixed 5 V Output, 6 to 26 V Input, with Low IQ, 8-pin SOIC (D), 0 to 125 degC, Green (RoHS & no Sb/Br); Manufacturer: Texas Instruments; PartNumber: TL751L05CDG4; Accuracy(%): 4; Fixed Output Options(V): 5; Iout(Max)(A): 0.15; Iq(Typ)(mA): 1; Rating: Military; SubFamily: Single Channel LDO; Vdo(Typ)(mV): 600; Vin(Max)(V): 26; Vin(Min)(V): 6; DatasheetVersion: SLVS017U; PackageVersion: 4040047-3/M; PackageReference: D8; PackageDescription: 8-Pin Plastic Small Outline, Body 4.9 x 3.9 mm, Pitch 1.27 mm; Supplier 1: Digi-Key; Supplier Part Number 1: TL751L05CDG4-ND; Supplier 2: Newark; Supplier Part Number 2: 41M5788; Supplier 3: Mouser; Supplier Part Number 3: 595-TL751L05CDG4; Eco-Plan: Green (RoHS & no Sb/Br); Vout Adj(Max)(V): 5; Vout Adj(Min)(V): 5; Mounting Technology: Surface Mount; Code_JEDEC: MS-012; ComponentLink1Description: Manufacturer URL; ComponentLink1URL: http://www.ti.com/; ComponentLink2Description: Datasheet; ComponentLink2URL: http://www.ti.com/general/docs/lit/getliterature.tsp?genericPartNumber=TL751L05&fileType=pdf; ComponentLink3Description: Package Specification; ComponentLink3URL: http://www.ti.com/litv/pdf/msoi002j; ComponentLink4Description: URL Link1; ComponentLink4URL: Samples URL:http://www.ti.com/product/tl751l05#samples
footprint TI-D8_N (SOIC, 8-Leads, Body 4.9x3.9mm, Pitch 1.27mm, IPC Medium Density)
footprint TI-D8_L (SOIC, 8-Leads, Body 4.9x3.9mm, Pitch 1.27mm, IPC High Density)
footprint TI-D8_M (SOIC, 8-Leads, Body 4.9x3.9mm, Pitch 1.27mm, IPC Low Density)
pins: 1 OUT (power), 2 COM (power), 3 COM (power), 4 NC "No internal connection", 5 ~{EN} (in), 6 COM (power), 7 COM (power), 8 IN (power)

## TL751L05CDR
designator U?
Single Output LDO, 150 mA, Fixed 5 V Output, 6 to 26 V Input, with Low IQ, 8-pin SOIC (D), 0 to 125 degC, Green (RoHS & no Sb/Br); Manufacturer: Texas Instruments; PartNumber: TL751L05CDR; Accuracy(%): 4; Fixed Output Options(V): 5; Iout(Max)(A): 0.15; Iq(Typ)(mA): 1; Rating: Military; SubFamily: Single Channel LDO; Vdo(Typ)(mV): 600; Vin(Max)(V): 26; Vin(Min)(V): 6; DatasheetVersion: SLVS017U; PackageVersion: 4040047-3/M; PackageReference: D8; PackageDescription: 8-Pin Plastic Small Outline, Body 4.9 x 3.9 mm, Pitch 1.27 mm; Supplier 1: Digi-Key; Supplier Part Number 1: 296-15015-2-ND; Supplier 2: Digi-Key; Supplier Part Number 2: 296-15015-1-ND; Supplier 3: Digi-Key; Supplier Part Number 3: 296-15015-6-ND; Supplier 4: Newark; Supplier Part Number 4: 76C9338; Supplier 5: Mouser; Supplier Part Number 5: 595-TL751L05CDR; Eco-Plan: Green (RoHS & no Sb/Br); Vout Adj(Max)(V): 5; Vout Adj(Min)(V): 5; Mounting Technology: Surface Mount; Code_JEDEC: MS-012; ComponentLink1Description: Manufacturer URL; ComponentLink1URL: http://www.ti.com/; ComponentLink2Description: Datasheet; ComponentLink2URL: http://www.ti.com/general/docs/lit/getliterature.tsp?genericPartNumber=TL751L05&fileType=pdf; ComponentLink3Description: Package Specification; ComponentLink3URL: http://www.ti.com/litv/pdf/msoi002j; ComponentLink4Description: URL Link1; ComponentLink4URL: Samples URL:http://www.ti.com/product/tl751l05#samples
footprint TI-D8_N (SOIC, 8-Leads, Body 4.9x3.9mm, Pitch 1.27mm, IPC Medium Density)
footprint TI-D8_L (SOIC, 8-Leads, Body 4.9x3.9mm, Pitch 1.27mm, IPC High Density)
footprint TI-D8_M (SOIC, 8-Leads, Body 4.9x3.9mm, Pitch 1.27mm, IPC Low Density)
pins: 1 OUT (power), 2 COM (power), 3 COM (power), 4 NC "No internal connection", 5 ~{EN} (in), 6 COM (power), 7 COM (power), 8 IN (power)

## TL751L05CDRE4
designator U?
Single Output LDO, 150 mA, Fixed 5 V Output, 6 to 26 V Input, with Low IQ, 8-pin SOIC (D), 0 to 125 degC, Green (RoHS & no Sb/Br); Manufacturer: Texas Instruments; PartNumber: TL751L05CDRE4; Accuracy(%): 4; Fixed Output Options(V): 5; Iout(Max)(A): 0.15; Iq(Typ)(mA): 1; Rating: Military; SubFamily: Single Channel LDO; Vdo(Typ)(mV): 600; Vin(Max)(V): 26; Vin(Min)(V): 6; DatasheetVersion: SLVS017U; PackageVersion: 4040047-3/M; PackageReference: D8; PackageDescription: 8-Pin Plastic Small Outline, Body 4.9 x 3.9 mm, Pitch 1.27 mm; Supplier 1: Digi-Key; Supplier Part Number 1: TL751L05CDRE4-ND; Supplier 2: Mouser; Supplier Part Number 2: 595-TL751L05CDRE4; Eco-Plan: Green (RoHS & no Sb/Br); Vout Adj(Max)(V): 5; Vout Adj(Min)(V): 5; Mounting Technology: Surface Mount; Code_JEDEC: MS-012; ComponentLink1Description: Manufacturer URL; ComponentLink1URL: http://www.ti.com/; ComponentLink2Description: Datasheet; ComponentLink2URL: http://www.ti.com/general/docs/lit/getliterature.tsp?genericPartNumber=TL751L05&fileType=pdf; ComponentLink3Description: Package Specification; ComponentLink3URL: http://www.ti.com/litv/pdf/msoi002j; ComponentLink4Description: URL Link1; ComponentLink4URL: Samples URL:http://www.ti.com/product/tl751l05#samples
footprint TI-D8_N (SOIC, 8-Leads, Body 4.9x3.9mm, Pitch 1.27mm, IPC Medium Density)
footprint TI-D8_L (SOIC, 8-Leads, Body 4.9x3.9mm, Pitch 1.27mm, IPC High Density)
footprint TI-D8_M (SOIC, 8-Leads, Body 4.9x3.9mm, Pitch 1.27mm, IPC Low Density)
pins: 1 OUT (power), 2 COM (power), 3 COM (power), 4 NC "No internal connection", 5 ~{EN} (in), 6 COM (power), 7 COM (power), 8 IN (power)

## TL751L05CDRG4
designator U?
Single Output LDO, 150 mA, Fixed 5 V Output, 6 to 26 V Input, with Low IQ, 8-pin SOIC (D), 0 to 125 degC, Green (RoHS & no Sb/Br); Manufacturer: Texas Instruments; PartNumber: TL751L05CDRG4; Accuracy(%): 4; Fixed Output Options(V): 5; Iout(Max)(A): 0.15; Iq(Typ)(mA): 1; Rating: Military; SubFamily: Single Channel LDO; Vdo(Typ)(mV): 600; Vin(Max)(V): 26; Vin(Min)(V): 6; DatasheetVersion: SLVS017U; PackageVersion: 4040047-3/M; PackageReference: D8; PackageDescription: 8-Pin Plastic Small Outline, Body 4.9 x 3.9 mm, Pitch 1.27 mm; Supplier 1: Digi-Key; Supplier Part Number 1: TL751L05CDRG4-ND; Supplier 2: Newark; Supplier Part Number 2: 41M5789; Supplier 3: Mouser; Supplier Part Number 3: 595-TL751L05CDRG4; Eco-Plan: Green (RoHS & no Sb/Br); Vout Adj(Max)(V): 5; Vout Adj(Min)(V): 5; Mounting Technology: Surface Mount; Code_JEDEC: MS-012; ComponentLink1Description: Manufacturer URL; ComponentLink1URL: http://www.ti.com/; ComponentLink2Description: Datasheet; ComponentLink2URL: http://www.ti.com/general/docs/lit/getliterature.tsp?genericPartNumber=TL751L05&fileType=pdf; ComponentLink3Description: Package Specification; ComponentLink3URL: http://www.ti.com/litv/pdf/msoi002j; ComponentLink4Description: URL Link1; ComponentLink4URL: Samples URL:http://www.ti.com/product/tl751l05#samples
footprint TI-D8_N (SOIC, 8-Leads, Body 4.9x3.9mm, Pitch 1.27mm, IPC Medium Density)
footprint TI-D8_L (SOIC, 8-Leads, Body 4.9x3.9mm, Pitch 1.27mm, IPC High Density)
footprint TI-D8_M (SOIC, 8-Leads, Body 4.9x3.9mm, Pitch 1.27mm, IPC Low Density)
pins: 1 OUT (power), 2 COM (power), 3 COM (power), 4 NC "No internal connection", 5 ~{EN} (in), 6 COM (power), 7 COM (power), 8 IN (power)

## TL751L10CDE4
designator U?
Single Output LDO, 150 mA, Fixed 10 V Output, 11 to 26 V Input, with Low IQ, 8-pin SOIC (D), 0 to 125 degC, Green (RoHS & no Sb/Br); Manufacturer: Texas Instruments; PartNumber: TL751L10CDE4; Accuracy(%): 4; Fixed Output Options(V): 10; Iout(Max)(A): 0.15; Iq(Typ)(mA): 1; Rating: Catalog; SubFamily: Single Channel LDO; Vdo(Typ)(mV): 600; Vin(Max)(V): 26; Vin(Min)(V): 11; DatasheetVersion: SLVS017U; PackageVersion: 4040047-3/M; PackageReference: D8; PackageDescription: 8-Pin Plastic Small Outline, Body 4.9 x 3.9 mm, Pitch 1.27 mm; Supplier 1: Digi-Key; Supplier Part Number 1: TL751L10CDE4-ND; Supplier 2: Mouser; Supplier Part Number 2: 595-TL751L10CDE4; Eco-Plan: Green (RoHS & no Sb/Br); Vout Adj(Max)(V): 10; Vout Adj(Min)(V): 10; Mounting Technology: Surface Mount; Code_JEDEC: MS-012; ComponentLink1Description: Manufacturer URL; ComponentLink1URL: http://www.ti.com/; ComponentLink2Description: Datasheet; ComponentLink2URL: http://www.ti.com/general/docs/lit/getliterature.tsp?genericPartNumber=TL751L10&fileType=pdf; ComponentLink3Description: Package Specification; ComponentLink3URL: http://www.ti.com/litv/pdf/msoi002j; ComponentLink4Description: URL Link1; ComponentLink4URL: Samples URL:http://www.ti.com/product/tl751l10#samples
footprint TI-D8_N (SOIC, 8-Leads, Body 4.9x3.9mm, Pitch 1.27mm, IPC Medium Density)
footprint TI-D8_L (SOIC, 8-Leads, Body 4.9x3.9mm, Pitch 1.27mm, IPC High Density)
footprint TI-D8_M (SOIC, 8-Leads, Body 4.9x3.9mm, Pitch 1.27mm, IPC Low Density)
pins: 1 OUT (power), 2 COM (power), 3 COM (power), 4 NC, 5 ~{EN} (in), 6 COM (power), 7 COM (power), 8 IN (power)

## TL751L10CDG4
designator U?
Single Output LDO, 150 mA, Fixed 10 V Output, 11 to 26 V Input, with Low IQ, 8-pin SOIC (D), 0 to 125 degC, Green (RoHS & no Sb/Br); Manufacturer: Texas Instruments; PartNumber: TL751L10CDG4; Accuracy(%): 4; Fixed Output Options(V): 10; Iout(Max)(A): 0.15; Iq(Typ)(mA): 1; Rating: Catalog; SubFamily: Single Channel LDO; Vdo(Typ)(mV): 600; Vin(Max)(V): 26; Vin(Min)(V): 11; DatasheetVersion: SLVS017U; PackageVersion: 4040047-3/M; PackageReference: D8; PackageDescription: 8-Pin Plastic Small Outline, Body 4.9 x 3.9 mm, Pitch 1.27 mm; Supplier 1: Digi-Key; Supplier Part Number 1: TL751L10CDG4-ND; Supplier 2: Mouser; Supplier Part Number 2: 595-TL751L10CDG4; Eco-Plan: Green (RoHS & no Sb/Br); Vout Adj(Max)(V): 10; Vout Adj(Min)(V): 10; Mounting Technology: Surface Mount; Code_JEDEC: MS-012; ComponentLink1Description: Manufacturer URL; ComponentLink1URL: http://www.ti.com/; ComponentLink2Description: Datasheet; ComponentLink2URL: http://www.ti.com/general/docs/lit/getliterature.tsp?genericPartNumber=TL751L10&fileType=pdf; ComponentLink3Description: Package Specification; ComponentLink3URL: http://www.ti.com/litv/pdf/msoi002j; ComponentLink4Description: URL Link1; ComponentLink4URL: Samples URL:http://www.ti.com/product/tl751l10#samples
footprint TI-D8_N (SOIC, 8-Leads, Body 4.9x3.9mm, Pitch 1.27mm, IPC Medium Density)
footprint TI-D8_L (SOIC, 8-Leads, Body 4.9x3.9mm, Pitch 1.27mm, IPC High Density)
footprint TI-D8_M (SOIC, 8-Leads, Body 4.9x3.9mm, Pitch 1.27mm, IPC Low Density)
pins: 1 OUT (power), 2 COM (power), 3 COM (power), 4 NC, 5 ~{EN} (in), 6 COM (power), 7 COM (power), 8 IN (power)

## TL751L10CDR
designator U?
Single Output LDO, 150 mA, Fixed 10 V Output, 11 to 26 V Input, with Low IQ, 8-pin SOIC (D), 0 to 125 degC, Green (RoHS & no Sb/Br); Manufacturer: Texas Instruments; PartNumber: TL751L10CDR; Accuracy(%): 4; Fixed Output Options(V): 10; Iout(Max)(A): 0.15; Iq(Typ)(mA): 1; Rating: Catalog; SubFamily: Single Channel LDO; Vdo(Typ)(mV): 600; Vin(Max)(V): 26; Vin(Min)(V): 11; DatasheetVersion: SLVS017U; PackageVersion: 4040047-3/M; PackageReference: D8; PackageDescription: 8-Pin Plastic Small Outline, Body 4.9 x 3.9 mm, Pitch 1.27 mm; Supplier 1: Digi-Key; Supplier Part Number 1: TL751L10CDR-ND; Supplier 2: Mouser; Supplier Part Number 2: 595-TL751L10CDR; Eco-Plan: Green (RoHS & no Sb/Br); Vout Adj(Max)(V): 10; Vout Adj(Min)(V): 10; Mounting Technology: Surface Mount; Code_JEDEC: MS-012; ComponentLink1Description: Manufacturer URL; ComponentLink1URL: http://www.ti.com/; ComponentLink2Description: Datasheet; ComponentLink2URL: http://www.ti.com/general/docs/lit/getliterature.tsp?genericPartNumber=TL751L10&fileType=pdf; ComponentLink3Description: Package Specification; ComponentLink3URL: http://www.ti.com/litv/pdf/msoi002j; ComponentLink4Description: URL Link1; ComponentLink4URL: Samples URL:http://www.ti.com/product/tl751l10#samples
footprint TI-D8_N (SOIC, 8-Leads, Body 4.9x3.9mm, Pitch 1.27mm, IPC Medium Density)
footprint TI-D8_L (SOIC, 8-Leads, Body 4.9x3.9mm, Pitch 1.27mm, IPC High Density)
footprint TI-D8_M (SOIC, 8-Leads, Body 4.9x3.9mm, Pitch 1.27mm, IPC Low Density)
pins: 1 OUT (power), 2 COM (power), 3 COM (power), 4 NC, 5 ~{EN} (in), 6 COM (power), 7 COM (power), 8 IN (power)

## TL751L10CDRE4
designator U?
Single Output LDO, 150 mA, Fixed 10 V Output, 11 to 26 V Input, with Low IQ, 8-pin SOIC (D), 0 to 125 degC, Green (RoHS & no Sb/Br); Manufacturer: Texas Instruments; PartNumber: TL751L10CDRE4; Accuracy(%): 4; Fixed Output Options(V): 10; Iout(Max)(A): 0.15; Iq(Typ)(mA): 1; Rating: Catalog; SubFamily: Single Channel LDO; Vdo(Typ)(mV): 600; Vin(Max)(V): 26; Vin(Min)(V): 11; DatasheetVersion: SLVS017U; PackageVersion: 4040047-3/M; PackageReference: D8; PackageDescription: 8-Pin Plastic Small Outline, Body 4.9 x 3.9 mm, Pitch 1.27 mm; Supplier 1: Digi-Key; Supplier Part Number 1: TL751L10CDRE4-ND; Supplier 2: Mouser; Supplier Part Number 2: 595-TL751L10CDRE4; Eco-Plan: Green (RoHS & no Sb/Br); Vout Adj(Max)(V): 10; Vout Adj(Min)(V): 10; Mounting Technology: Surface Mount; Code_JEDEC: MS-012; ComponentLink1Description: Manufacturer URL; ComponentLink1URL: http://www.ti.com/; ComponentLink2Description: Datasheet; ComponentLink2URL: http://www.ti.com/general/docs/lit/getliterature.tsp?genericPartNumber=TL751L10&fileType=pdf; ComponentLink3Description: Package Specification; ComponentLink3URL: http://www.ti.com/litv/pdf/msoi002j; ComponentLink4Description: URL Link1; ComponentLink4URL: Samples URL:http://www.ti.com/product/tl751l10#samples
footprint TI-D8_N (SOIC, 8-Leads, Body 4.9x3.9mm, Pitch 1.27mm, IPC Medium Density)
footprint TI-D8_L (SOIC, 8-Leads, Body 4.9x3.9mm, Pitch 1.27mm, IPC High Density)
footprint TI-D8_M (SOIC, 8-Leads, Body 4.9x3.9mm, Pitch 1.27mm, IPC Low Density)
pins: 1 OUT (power), 2 COM (power), 3 COM (power), 4 NC, 5 ~{EN} (in), 6 COM (power), 7 COM (power), 8 IN (power)

## TL751L10CDRG4
designator U?
Single Output LDO, 150 mA, Fixed 10 V Output, 11 to 26 V Input, with Low IQ, 8-pin SOIC (D), 0 to 125 degC, Green (RoHS & no Sb/Br); Manufacturer: Texas Instruments; PartNumber: TL751L10CDRG4; Accuracy(%): 4; Fixed Output Options(V): 10; Iout(Max)(A): 0.15; Iq(Typ)(mA): 1; Rating: Catalog; SubFamily: Single Channel LDO; Vdo(Typ)(mV): 600; Vin(Max)(V): 26; Vin(Min)(V): 11; DatasheetVersion: SLVS017U; PackageVersion: 4040047-3/M; PackageReference: D8; PackageDescription: 8-Pin Plastic Small Outline, Body 4.9 x 3.9 mm, Pitch 1.27 mm; Supplier 1: Digi-Key; Supplier Part Number 1: TL751L10CDRG4-ND; Supplier 2: Mouser; Supplier Part Number 2: 595-TL751L10CDRG4; Eco-Plan: Green (RoHS & no Sb/Br); Vout Adj(Max)(V): 10; Vout Adj(Min)(V): 10; Mounting Technology: Surface Mount; Code_JEDEC: MS-012; ComponentLink1Description: Manufacturer URL; ComponentLink1URL: http://www.ti.com/; ComponentLink2Description: Datasheet; ComponentLink2URL: http://www.ti.com/general/docs/lit/getliterature.tsp?genericPartNumber=TL751L10&fileType=pdf; ComponentLink3Description: Package Specification; ComponentLink3URL: http://www.ti.com/litv/pdf/msoi002j; ComponentLink4Description: URL Link1; ComponentLink4URL: Samples URL:http://www.ti.com/product/tl751l10#samples
footprint TI-D8_N (SOIC, 8-Leads, Body 4.9x3.9mm, Pitch 1.27mm, IPC Medium Density)
footprint TI-D8_L (SOIC, 8-Leads, Body 4.9x3.9mm, Pitch 1.27mm, IPC High Density)
footprint TI-D8_M (SOIC, 8-Leads, Body 4.9x3.9mm, Pitch 1.27mm, IPC Low Density)
pins: 1 OUT (power), 2 COM (power), 3 COM (power), 4 NC, 5 ~{EN} (in), 6 COM (power), 7 COM (power), 8 IN (power)